# Altium schematic symbol library SL_Capacitors_Poly.SchLib: 1 symbol
Pins are listed as number, name and electrical type; pins without a type are passive.

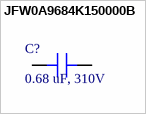
[diagram p0: symbol JFW0A9684K150000B]

## JFW0A9684K150000B
designator С?, comment 0.68 uF, 310V
0.68 uF, 310V, 10%, X2; Manufacturer_Name: JFW0A9684K150000B; Datasheet Link: https://static.chipdip.ru/lib/632/DOC044632449.pdf; Height: 11.5mm
footprint JFW0A9684K150000B
pins: 1, 2